# EAGLE library part CON-MIL-16 (library mylib)
MIL Box Pinheader : 16Pin
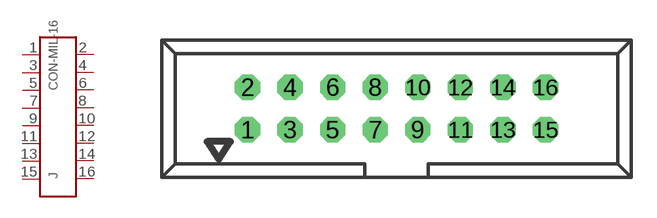
[diagram p26: symbol with the pads of CON-MIL-16; footprint CON-MIL-16]

Designator prefix J

## CON-MIL-16  [CON-MIL-16]
1  1
2  2
3  3
4  4
5  5
6  6
7  7
8  8
9  9
10  10
11  11
12  12
13  13
14  14
15  15
16  16

## Footprint CON-MIL-16 (pad centres in mm)
drill 1 octagon: 1 -8.89,-1.27; 2 -8.89,1.27; 3 -6.35,-1.27; 4 -6.35,1.27; 5 -3.81,-1.27; 6 -3.81,1.27; 7 -1.27,-1.27; 8 -1.27,1.27; 9 1.27,-1.27; 10 1.27,1.27; 11 3.81,-1.27; 12 3.81,1.27; 13 6.35,-1.27; 14 6.35,1.27; 15 8.89,-1.27; 16 8.89,1.27